# Altium footprint library RESC15077X100N.PcbLib: 1 footprints
Each footprint in its own frame and in the unit in brackets; x right, y up, seen from the top. Pads: shape width x height; smd on the part's side, far side on the other; paste and mask are expansions set on the pad; w line width, h text height; cw(c..) or ccw(c..) is an arc to the next point about the centre after c.
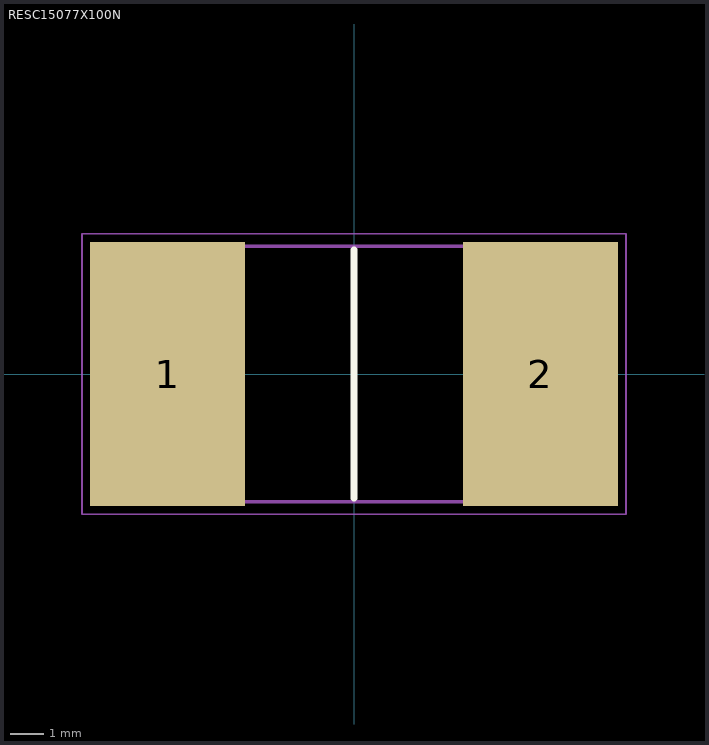
[diagram p0: the footprint, top view; thin cyan lines are the x and y axes]

## RESC15077X100N [mm]
pads (2):
  rect 4.7x8 smd: 1(-5.65,0) 2(5.65,0)
Top Overlay:
  lines w0.2: 0,-3.774 0,3.774
Mechanical 15:
  lines w0.1: -7.5,-3.874 7.5,-3.874 7.5,3.874 -7.5,3.874 -7.5,-3.874
Mechanical 20:
  lines w0.05: -8.25,-4.25 8.25,-4.25 8.25,4.25 -8.25,4.25 -8.25,-4.25